# EAGLE library part P18_CONNECTOR (library SSS_SOB_REPRO)
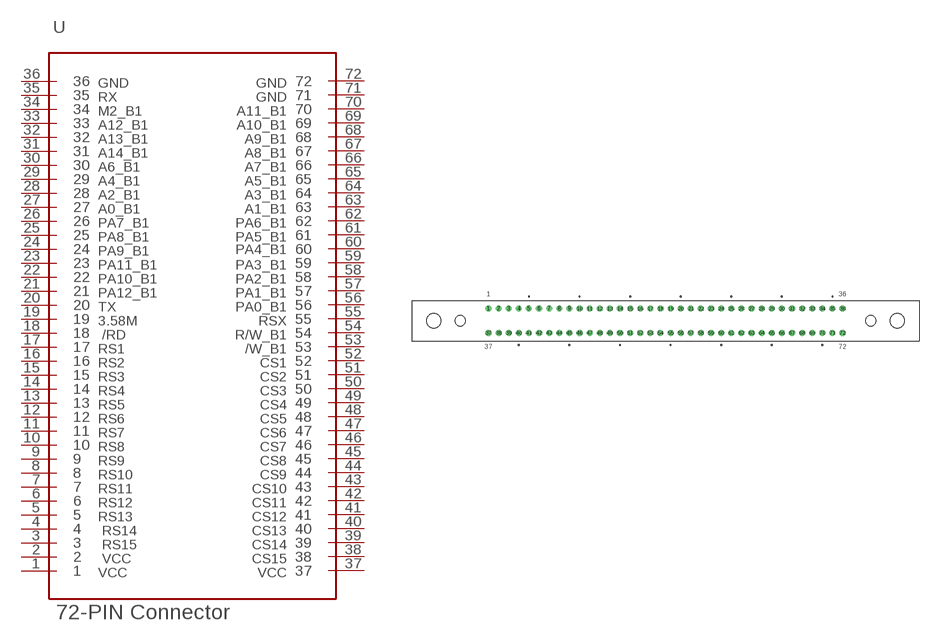
[diagram p3: symbol with the pads of 72PIN; footprint 72PIN]

Designator prefix -

## P18_CONNECTOR  [72PIN]
1  1
2  2
3  3
4  4
5  5
6  6
7  7
8  8
9  9
10  10
11  11
12  12
13  13
14  14
15  15
16  16
17  17
18  18
19  19
20  20
21  21
22  22
23  23
24  24
25  25
26  26
27  27
28  28
29  29
30  30
31  31
32  32
33  33
34  34
35  35
36  36
37  37
38  38
39  39
40  40
41  41
42  42
43  43
44  44
45  45
46  46
47  47
48  48
49  49
50  50
51  51
52  52
53  53
54  54
55  55
56  56
57  57
58  58
59  59
60  60
61  61
62  62
63  63
64  64
65  65
66  66
67  67
68  68
69  69
70  70
71  71
72  72

## Footprint 72PIN (pad centres in mm)
drill 1: 1 0,6; 2 2.5,6; 3 5,6; 4 7.5,6; 5 10,6; 6 12.5,6; 7 15,6; 8 17.5,6; 9 20,6; 10 22.5,6; 11 25,6; 12 27.5,6; 13 30,6; 14 32.5,6; 15 35,6; 16 37.5,6; 17 40,6; 18 42.5,6; 19 45,6; 20 47.5,6; 21 50,6; 22 52.5,6; 23 55,6; 24 57.5,6; 25 60,6; 26 62.5,6; 27 65,6; 28 67.5,6; 29 70,6; 30 72.5,6; 31 75,6; 32 77.5,6; 33 80,6; 34 82.5,6; 35 85,6; 36 87.5,6; 37 0,0; 38 2.5,0; 39 5,0; 40 7.5,0; 41 10,0; 42 12.5,0; 43 15,0; 44 17.5,0; 45 20,0; 46 22.5,0; 47 25,0; 48 27.5,0; 49 30,0; 50 32.5,0; 51 35,0; 52 37.5,0; 53 40,0; 54 42.5,0; 55 45,0; 56 47.5,0; 57 50,0; 58 52.5,0; 59 55,0; 60 57.5,0; 61 60,0; 62 62.5,0; 63 65,0; 64 67.5,0; 65 70,0; 66 72.5,0; 67 75,0; 68 77.5,0; 69 80,0; 70 82.5,0; 71 85,0; 72 87.5,0
hole 2.5 at -7,3
hole 2.5 at 94.5,3
hole 3.5 at 101,3
hole 3.5 at -13.5,3